# Altium footprint library Filter.PcbLib: 15 footprints
Each footprint in its own frame and in the unit in brackets; x right, y up, seen from the top. Pads: shape width x height; smd on the part's side, far side on the other; paste and mask are expansions set on the pad; w line width, h text height; cw(c..) or ccw(c..) is an arc to the next point about the centre after c.
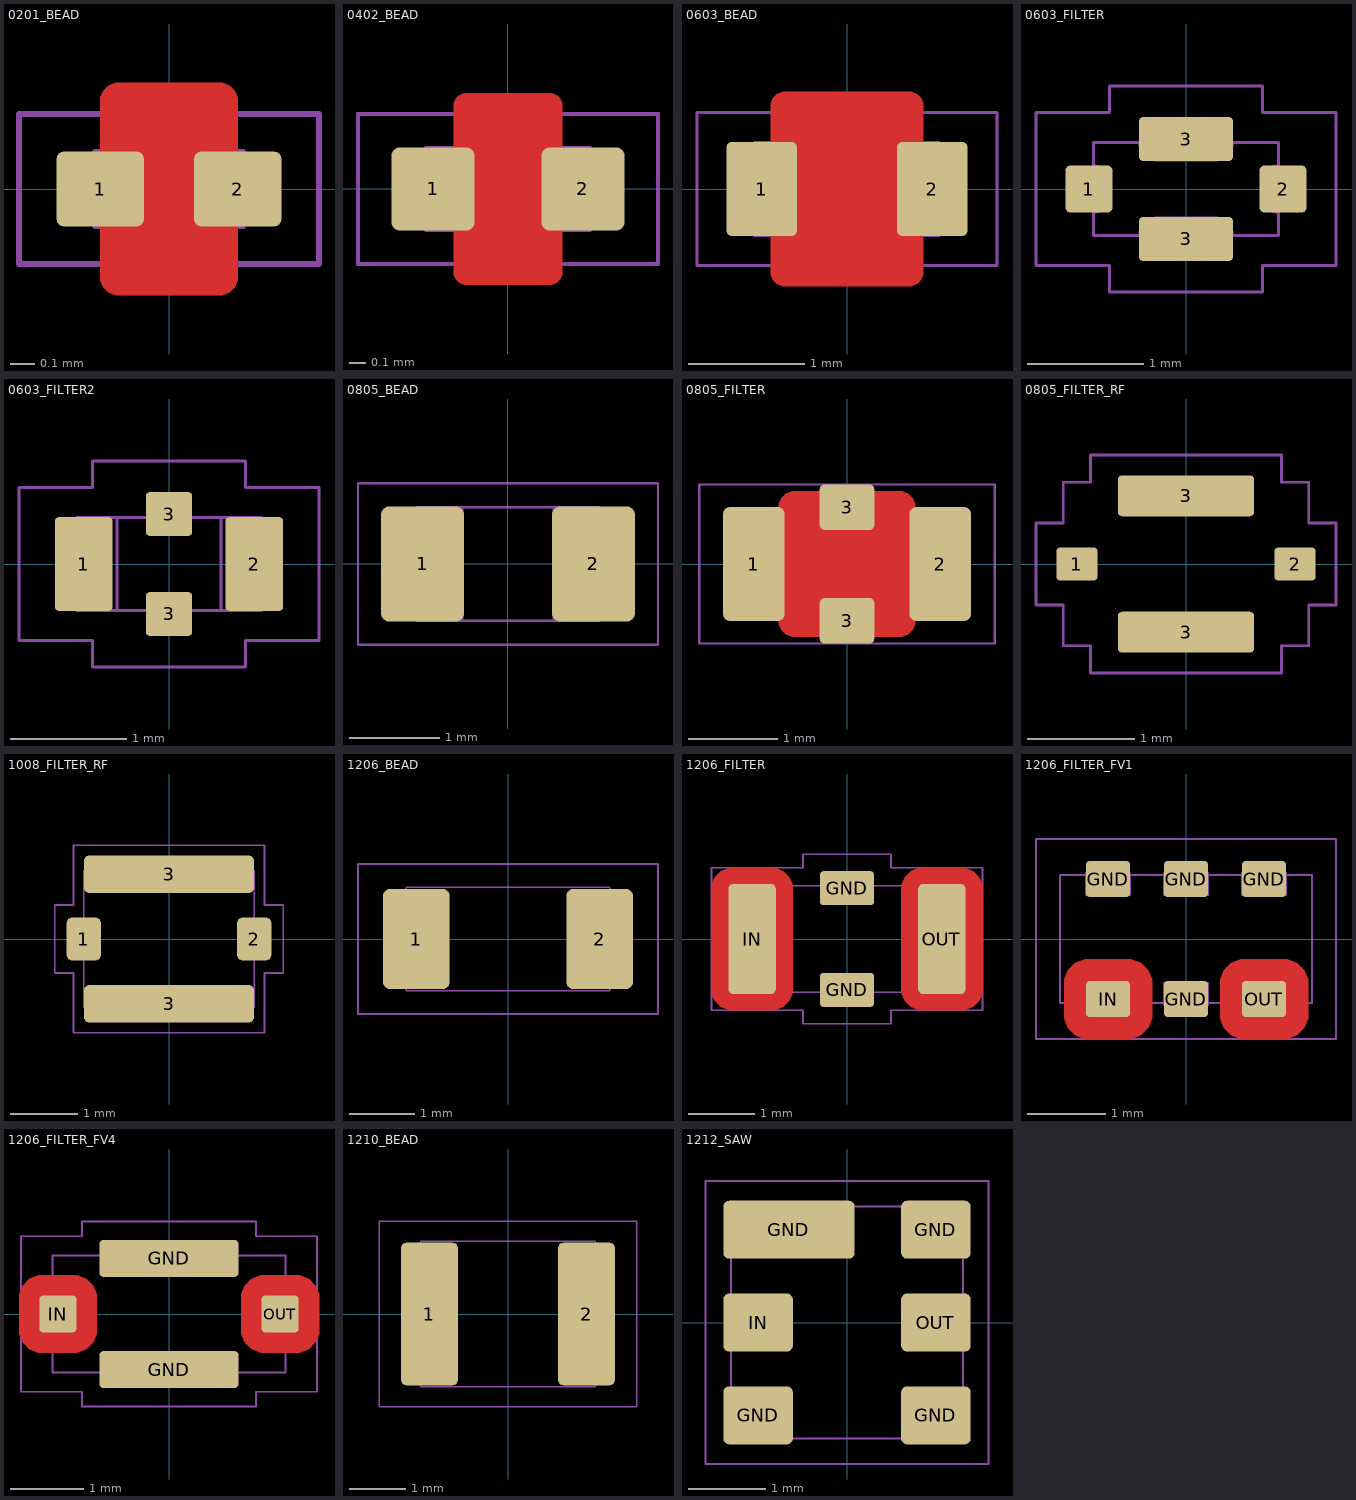
[diagram p0: the footprints below, top view; thin cyan lines are the x and y axes]

## 0201_BEAD [mil]
pads (2):
  rrect20% 14x12 smd mask+1.5: 1(-11,0) 2(11,0)
Top Layer:
  pour cut-out: -8,17 -8.6,17 -9.7,16.54 -10.54,15.7 -11,14.6 -11,14 -11,-14 -11,-14.6 -10.54,-15.7 -9.7,-16.54 -8.6,-17 -8,-17 8,-17 8.6,-17 9.7,-16.54 10.54,-15.7 11,-14.6 11,-14 11,14 11,14.6 10.54,15.7 9.7,16.54 8.6,17 8,17
Top Solder:
  rectangle: -6,-12.1 6,12.1
Top Designator:
  text ".Designator" at -54.7,-5.36 h15
Top Courtyard:
  lines w1: -24,-12 -24,12 24,12 24,-12 -24,-12
Top Component Outline:
  lines w1: -5.91,-5.91 -5.91,5.91 ; 5.91,-5.91 5.91,5.91 ; -11.81,-5.91 11.81,-5.91 11.81,5.91 -11.81,5.91 -11.81,-5.91
3D body: height 7.7, standoff 0.2, extent -11.81,-5.91 11.81,5.91
3D body: height 7.87, standoff 0, extent -12,-6 -6,6
3D body: height 7.87, standoff 0, extent 6,-6 12,6

## 0402_BEAD [mil]
pads (2):
  rrect20% 20x20 smd mask+2: 1(-18,0) 2(18,0)
Top Layer:
  pour cut-out: 13,20 13,20.6 12.54,21.7 11.7,22.54 10.6,23 10,23 -10,23 -10.6,23 -11.7,22.54 -12.54,21.7 -13,20.6 -13,20 -13,-20 -13,-20.6 -12.54,-21.7 -11.7,-22.54 -10.6,-23 -10,-23 10,-23 10.6,-23 11.7,-22.54 12.54,-21.7 13,-20.6 13,-20
Top Solder:
  region: -8,18.1 -8,12 -17,12 -17,-12 -8,-12 -8,-18.1 8,-18.1 8,-12 17,-12 17,12 8,12 8,18.1
Top Designator:
  text ".Designator" at -54.7,-5.36 h15
Top Courtyard:
  lines w1: -36,-18 36,-18 36,18 -36,18 -36,-18
Top Component Outline:
  lines w1: -9.84,-9.84 -9.84,9.84 ; 9.84,-9.84 9.84,9.84 ; -19.68,-9.84 -19.68,9.84 19.68,9.84 19.68,-9.84 -19.68,-9.84
3D body: height 20, standoff 0, extent -20,-10 -10,10
3D body: height 20, standoff 0, extent 10,-10 20,10
3D body: height 19.8, standoff 0.2, extent -19.68,-9.84 19.68,9.84

## 0603_BEAD [mil]
pads (2):
  rrect15% 24x32 smd paste-1 mask+2: 1(-29,0) 2(29,0)
Top Layer:
  pour cut-out: -21,33 -21.99,33 -23.83,32.24 -25.24,30.83 -26,28.99 -26,28 -26,-28 -26,-28.99 -25.24,-30.83 -23.83,-32.24 -21.99,-33 -21,-33 21,-33 22,-33 23.83,-32.24 25.24,-30.83 26,-28.99 26,-28 26,28 26,28.99 25.24,30.83 23.83,32.24 22,33 21,33
Top Solder:
  rectangle: -20,-27 20,27
Top Courtyard:
  lines w1: -51,-26 51,-26 51,26 -51,26 -51,-26
Top Component Outline:
  lines w1: -17.72,-15.75 -17.72,15.75 ; 17.72,-15.75 17.72,15.75 ; -31.5,-15.75 -31.5,15.75 31.5,15.75 31.5,-15.75 -31.5,-15.75
3D body: height 32, standoff 0, extent 18,-16 32,16
3D body: height 32, standoff 0, extent -32,-16 -18,16
3D body: height 31.5, standoff 0.2, extent -31.5,-15.75 31.5,15.75

## 0603_FILTER [mil]
pads (4):
  rrect20% 16x16 smd paste+0 mask+1.5: 1(-33,0) 2(33,0)
  rrect20% 32x15 smd paste-1 mask+1.5: 3(0,-17) 3(0,17)
Top Courtyard:
  lines w1: -51,-26 -51,26 -26,26 -26,35 26,35 26,26 51,26 51,-26 26,-26 26,-35 -26,-35 -26,-26 -51,-26
Top Component Outline:
  lines w1: -31.5,-7.87 ccw(c-31.5,-1.97) -25.59,-1.97 -25.59,1.97 ccw(c-31.5,1.97) -31.5,7.87 ; -15.75,-15.75 cw(c-9.84,-15.75) -9.84,-9.84 9.84,-9.84 cw(c9.84,-15.75) 15.75,-15.75 ; -15.75,15.75 ccw(c-9.84,15.75) -9.84,9.84 9.84,9.84 ccw(c9.84,15.75) 15.75,15.75 ; 31.5,-7.87 cw(c31.5,-1.97) 25.59,-1.97 25.59,1.97 cw(c31.5,1.97) 31.5,7.87 ; -31.5,-15.75 -31.5,15.75 31.5,15.75 31.5,-15.75 -31.5,-15.75
3D body: height 23.62, standoff 0, extent -15.75,-15.75 15.75,-9.84
3D body: height 23.62, standoff 0, extent -15.75,9.84 15.75,15.75
3D body: height 23.62, standoff 0, extent 25.59,-7.87 31.5,7.87
3D body: height 23.62, standoff 0, extent -31.5,-7.87 -25.59,7.87
3D body: height 23, standoff 1, extent -31,-15 31,15

## 0603_FILTER2 [mil]
pads (4):
  rrect15% 19.68x32 smd paste-1 mask+2: 1(-29,0) 2(29,0)
  rrect20% 15.75x15 smd paste-1 mask+1.5: 3(0,-17) 3(0,17)
Top Courtyard:
  lines w1: -51,-26 -26,-26 -26,-35 26,-35 26,-26 51,-26 51,26 26,26 26,35 -26,35 -26,26 -51,26 -51,-26
Top Component Outline:
  lines w1: -17.72,-15.75 -17.72,15.75 ; 17.72,-15.75 17.72,15.75 ; -31.5,-15.75 -31.5,15.75 31.5,15.75 31.5,-15.75 -31.5,-15.75
3D body: height 24, standoff 0, extent -33,-16 -19,16
3D body: height 24, standoff 0, extent 19,-16 33,16
3D body: height 23.62, standoff 0.2, extent -31.5,-15.75 31.5,15.75
3D body: height 24, standoff 0, extent -7.95,10.04 7.95,15.95
3D body: height 24, standoff 0, extent -7.95,-15.95 7.95,-10.04

## 0805_BEAD [mil]
pads (2):
  rrect20% 36x50 smd paste-3 mask+2: 1(-37,0) 2(37,0)
Top Designator:
  text ".Designator" at -127.64,-12.5 h35
Top Courtyard:
  lines w1: -65,-35 -65,35 65,35 65,-35 -65,-35
Top Component Outline:
  lines w1: -19.68,-24.61 -19.68,24.61 ; 19.68,-24.61 19.68,24.61 ; -39.37,-24.61 -39.37,24.61 39.37,24.61 39.37,-24.61 -39.37,-24.61
3D body: height 25.5, standoff 0, extent -39.37,-24.61 -19.68,24.61
3D body: height 25, standoff 1, extent -39,-24 39,24
3D body: height 25.5, standoff 0, extent 19.68,-24.61 39.37,24.61

## 0805_FILTER [mil]
pads (4):
  rrect20% 27x50 smd paste-3 mask+2: 1(-41,0) 2(41,0)
  rrect20% 24x20 smd mask+2: 3(0,-25) 3(0,25)
Top Layer:
  pour cut-out: -23,32 -24.39,32 -26.97,30.93 -28.93,28.97 -30,26.39 -30,25 -30,-25 -30,-26.39 -28.93,-28.97 -26.97,-30.93 -24.39,-32 -23,-32 23,-32 24.39,-32 26.97,-30.93 28.93,-28.97 30,-26.39 30,-25 30,25 30,26.39 28.93,28.97 26.97,30.93 24.39,32 23,32
Top Courtyard:
  lines w1: -65,-35 65,-35 65,35 -65,35 -65,-35
Top Component Outline:
  lines w1: -27.56,-24.61 -27.56,24.6 ; -12,24.61 ccw(c-1.39,24.61) -1.39,14 1.39,14 ccw(c1.39,24.61) 12,24.61 ; 27.56,-24.6 27.56,24.61 ; -39.37,-24.6 39.37,-24.6 39.37,24.61 -39.37,24.61 -39.37,-24.6
3D body: height 23.62, standoff 0, extent -12,-24.61 12,-14
3D body: height 23.62, standoff 0, extent -12,14 12,24.61
3D body: height 23.62, standoff 0, extent 27.56,-24.6 39.37,24.61
3D body: height 23, standoff 1, extent -39,-24 39,24
3D body: height 23.62, standoff 0, extent -39.37,-24.61 -27.56,24.6

## 0805_FILTER_RF [mil]
pads (4):
  rrect20% 15x12 smd mask+2: 1(-40,0) 2(40,0)
  rrect20% 50x15 smd mask+2: 3(0,-25) 3(0,25)
Top Designator:
  text ".Designator" at -127.64,-12.5 h35
Top Courtyard:
  lines w1: -55,-15 -45,-15 -45,-30 -35,-30 -35,-40 35,-40 35,-30 45,-30 45,-15 55,-15 55,15 45,15 45,30 35,30 35,40 -35,40 -35,30 -45,30 -45,15 -55,15 -55,-15
3D body "FILTER-RF-0805.step": height 36.74, standoff -0.74, extent -39.4,-24.64 39.41,24.65

## 1008_FILTER_RF [mil]
pads (4):
  rrect30% 20x25 smd mask+2: 1(-50,0) 2(50,0)
  rrect30% 100x22 smd paste-3 mask+2: 3(0,-38) 3(0,38)
Top Designator:
  text ".Designator" at -127.64,-12.5 h35
Top Courtyard:
  lines w1: -67,-20 -67,20 -56,20 -56,55 56,55 56,20 67,20 67,-20 56,-20 56,-55 -56,-55 -56,-20 -67,-20
Top Component Outline:
  lines w1: -50,-40 -50,40 50,40 50,-40 -50,-40
3D body: height 37.5, standoff 0, extent -30,-10 -5,10
3D body: height 37.5, standoff 0, extent 38,-10 50,10
3D body: height 37.5, standoff 0, extent -50,28 50,40
3D body: height 37.5, standoff 0, extent -50,-40 50,-28
3D body: height 37.5, standoff 0, extent -50,-10 -38,10
3D body: height 37, standoff 1, extent -49,-39 49,39

## 1206_BEAD [mil]
pads (2):
  rrect20% 40x60 smd mask+2: 1(-55,0) 2(55,0)
Top Designator:
  text ".Designator" at -127.64,-12.5 h35
Top Courtyard:
  lines w1: -90,-45 90,-45 90,45 -90,45 -90,-45
Top Component Outline:
  lines w1: -61,-31 61,-31 61,31 -61,31 -61,-31
3D body: height 39.37, standoff 0, extent -61,-31 -35,31
3D body: height 39, standoff 1, extent -60,-30 60,30
3D body: height 39.37, standoff 0, extent 35,-31 61,31

## 1206_FILTER [mil]
pads (4):
  rrect20% 32x20 smd mask+2: GND(0,-30) GND(0,30)
  rrect20% 28x65 smd mask+2: IN(-56,0) OUT(56,0)
Top Layer:
  pour cut-out: -67,42 -69.59,42 -74.36,40.02 -78.02,36.36 -80,31.59 -80,29 -80,-29 -80,-31.59 -78.02,-36.36 -74.36,-40.02 -69.59,-42 -67,-42 -45,-42 -42.41,-42 -37.64,-40.02 -33.98,-36.36 -32,-31.59 -32,-29 -32,29 -32,31.59 -33.98,36.36 -37.64,40.02 -42.41,42 -45,42
  pour cut-out: 45,42 42.41,42 37.64,40.02 33.98,36.36 32,31.59 32,29 32,-29 32,-31.59 33.98,-36.36 37.64,-40.02 42.41,-42 45,-42 67,-42 69.59,-42 74.36,-40.02 78.02,-36.36 80,-31.59 80,-29 80,29 80,31.59 78.02,36.36 74.36,40.02 69.59,42 67,42
Top Courtyard:
  lines w1: -80,-42 -26,-42 -26,-50 26,-50 26,-42 80,-42 80,42 26,42 26,50 -26,50 -26,42 -80,42 -80,-42
Top Component Outline:
  lines w1: -42.99,-31.5 -42.99,31.5 ; 42.99,-31.5 42.99,31.5 ; -62.99,-31.5 62.99,-31.5 62.99,31.5 -62.99,31.5 -62.99,-31.5
3D body: height 37, standoff 35, extent -42,-8 -11,8
3D body: height 36, standoff 1, extent -61,-30 61,30
3D body: height 37, standoff 0, extent -16,24 16,32
3D body: height 37, standoff 0, extent -16,-32 16,-24
3D body: height 37, standoff 0, extent -62.99,-31.5 -42.99,31.5
3D body: height 37, standoff 0, extent 42.99,-31.5 62.99,31.5

## 1206_FILTER_FV1 [mil]
pads (6):
  rrect20% 22x18 smd mask+2: GND(-39,30) GND(0,-30) GND(0,30) GND(39,30) IN(-39,-30) OUT(39,-30)
Top Layer:
  pour cut-out: 30,-10 27.41,-10 22.64,-11.98 18.98,-15.64 17,-20.41 17,-23 17,-37 17,-39.59 18.98,-44.36 22.64,-48.02 27.41,-50 30,-50 48,-50 50.59,-50 55.36,-48.02 59.02,-44.36 61,-39.59 61,-37 61,-23 61,-20.41 59.02,-15.64 55.36,-11.98 50.59,-10 48,-10
  pour cut-out: -48,-10 -50.59,-10 -55.36,-11.98 -59.02,-15.64 -61,-20.41 -61,-23 -61,-37 -61,-39.59 -59.02,-44.36 -55.36,-48.02 -50.59,-50 -48,-50 -30,-50 -27.41,-50 -22.64,-48.02 -18.98,-44.36 -17,-39.59 -17,-37 -17,-23 -17,-20.41 -18.98,-15.64 -22.64,-11.98 -27.41,-10 -30,-10
Top Solder:
  region: 19.5,5 19.5,-5 50.5,-5 50.5,5
Top Courtyard:
  lines w1: -75,-50 -75,50 75,50 75,-50 -75,-50
Top Component Outline:
  lines w1: 0,-27.5 0,-33 ; 0,-33 0,-33 ; -63,-32 63,-32 63,32 -63,32 -63,-32 ; -50,-33 -28,-33 -28,-22 -50,-22 -50,-33 ; -50,22 -50,33 -28,33 -28,22 -50,22 ; -11,-33 -11,-22 11,-22 11,-33 -11,-33 ; -11,22 -11,33 11,33 11,22 -11,22 ; 28,-33 28,-22 50,-22 50,-33 28,-33 ; 28,22 50,22 50,33 28,33 28,22
3D body: height 37, standoff 0, extent -50,22 -28,33
3D body: height 37, standoff 0, extent 28,22 50,33
3D body: height 37, standoff 0, extent -11,22 11,33
3D body: height 37, standoff 0, extent -11,-33 11,-22
3D body: height 37, standoff 0, extent -50,-33 -28,-22
3D body: height 37, standoff 0, extent 28,-33 50,-22
3D body: height 36, standoff 1, extent -63,-32 63,32
3D body: height 37, standoff 35, extent 19.5,-8 50.5,8

## 1206_FILTER_FV4 [mil]
pads (4):
  rrect20% 75x20 smd mask+2: GND(0,-30) GND(0,30)
  rrect20% 20x20 smd mask+2: IN(-60,0) OUT(60,0)
Top Layer:
  pour cut-out: 52,21 49.41,21 44.64,19.02 40.98,15.36 39,10.59 39,8 39,-8 39,-10.59 40.98,-15.36 44.64,-19.02 49.41,-21 52,-21 68,-21 70.59,-21 75.36,-19.02 79.02,-15.36 81,-10.59 81,-8 81,8 81,10.59 79.02,15.36 75.36,19.02 70.59,21 68,21
  pour cut-out: -68,21 -70.59,21 -75.36,19.02 -79.02,15.36 -81,10.59 -81,8 -81,-8 -81,-10.59 -79.02,-15.36 -75.36,-19.02 -70.59,-21 -68,-21 -52,-21 -49.41,-21 -44.64,-19.02 -40.98,-15.36 -39,-10.59 -39,-8 -39,8 -39,10.59 -40.98,15.36 -44.64,19.02 -49.41,21 -52,21
Top Courtyard:
  lines w1: -80,-42 -47,-42 -47,-50 47,-50 47.02,-42 80,-42 80,42 47,42 47,50 -47,50 -47.02,42 -80,42 -80,-42
Top Component Outline:
  lines w1: -62.99,-10 -50,-10 -50,10 -62.99,10 ; 62.99,-10 50,-10 50,10 62.99,10 ; -62.99,-31.5 -62.99,31.5 62.99,31.5 62.99,-31.5 -62.99,-31.5
3D body: height 37, standoff 35, extent -42,-8 -11,8
3D body: height 36, standoff 1, extent -61,-30 61,30
3D body: height 37, standoff 0, extent 50,-10 62.99,10
3D body: height 37, standoff 0, extent -62.99,-10 -50,10
3D body: height 37, standoff 0, extent -37,-31.5 37,-24
3D body: height 37, standoff 0, extent -37,24 37,31.5

## 1210_BEAD [mil]
height 39.37
pads (2):
  rrect20% 40x100 smd: 1(-55,0) 2(55,0)
Top Designator:
  text ".Designator" at -127.64,-12.5 h35
Top Courtyard:
  lines w1: -90,-65 -90,65 90,65 90,-65 -90,-65
Top Component Outline:
  lines w1: -61,-51 -61,51 61,51 61,-51 -61,-51
3D body: height 39.37, standoff 0, extent 35,-51 61,51
3D body: height 38.5, standoff 1, extent -60,-50 60,50
3D body: height 39.37, standoff 0, extent -61,-51 -35,51

## 1212_SAW [mm]
pads (6):
  rrect20% 0.9x0.75 smd mask+0.051: GND(-1.15,-1.2) GND(1.15,-1.2) GND(1.15,1.2) IN(-1.15,0) OUT(1.15,0)
  rrect20% 1.7x0.75 smd mask+0.051: GND(-0.75,1.2)
Top Courtyard:
  lines w0.025: -1.829,-1.829 -1.829,1.829 1.829,1.829 1.829,-1.829 -1.829,-1.829
Top Component Outline:
  lines w0.025: -1.5,-0.9 -0.75,-0.9 -0.75,-1.5 ; -1.5,-0.3 -0.75,-0.3 -0.75,0.3 -1.5,0.3 ; -1.5,0.9 0,0.9 0,1.5 ; 0.75,-1.5 0.75,-0.9 1.5,-0.9 ; 0.75,1.5 0.75,0.9 1.5,0.9 ; 1.5,-0.3 0.75,-0.3 0.75,0.3 1.5,0.3 ; -1.5,-1.5 1.5,-1.5 1.5,1.5 -1.5,1.5 -1.5,-1.5
3D body "SW3dPS-DCC6C.STEP": height 1.14, standoff -0.09, extent -1.5,-1.5 1.5,1.5